# Altium schematic symbol library H-bridge.SchLib: 1 symbol
Pins are listed as number, name and electrical type; pins without a type are passive.

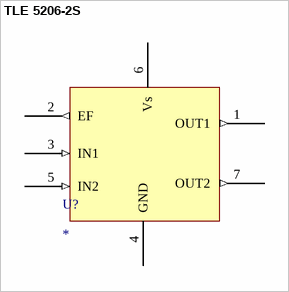
[diagram p0: symbol TLE 5206-2S]

## TLE 5206-2S
designator U?
Infineon TLE 5206-2S Hbridge
footprint Model Name (Footprint not found)
pins: 1 OUT1 (out), 2 EF (out) "ErrorFlag Output", 3 IN1 (in) "Input Logic 1", 4 GND (power) "Supply Voltage", 5 IN2 (in) "Input Logic 2", 6 Vs (power) "Supply Voltage", 7 OUT2 (out)